# EAGLE library part TP4056 (library TP4056 charging module)
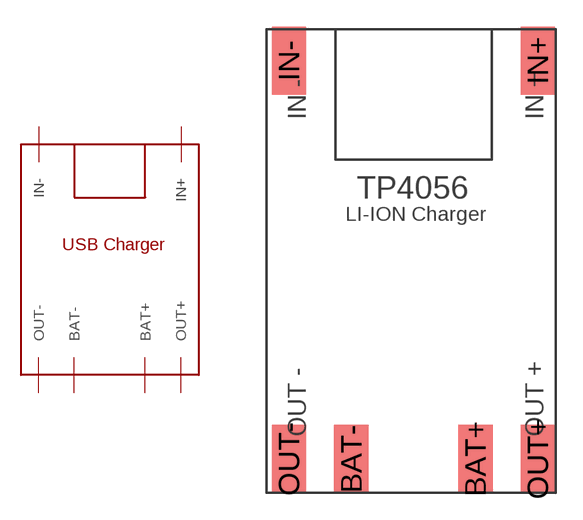
[diagram p0: symbol with the pads of TP4056; footprint TP4056]

Designator prefix -

## TP4056  [TP4056]
BAT+  BAT+
BAT-  BAT-
IN+  IN+
IN-  IN-
OUT+  OUT+
OUT-  OUT-

## Footprint TP4056 (pad centres in mm)
smd 1.93 x 3.81: BAT+ 5.39,-10.16; BAT- -1.58,-10.16; IN+ 8.89,12.2; IN- -5.08,12.2; OUT+ 8.89,-10.16; OUT- -5.08,-10.16